# Altium footprint library M55342K06B150ERS3.PcbLib: 2 footprints
Each footprint in its own frame and in the unit in brackets; x right, y up, seen from the top. Pads: shape width x height; smd on the part's side, far side on the other; paste and mask are expansions set on the pad; w line width, h text height; cw(c..) or ccw(c..) is an arc to the next point about the centre after c.
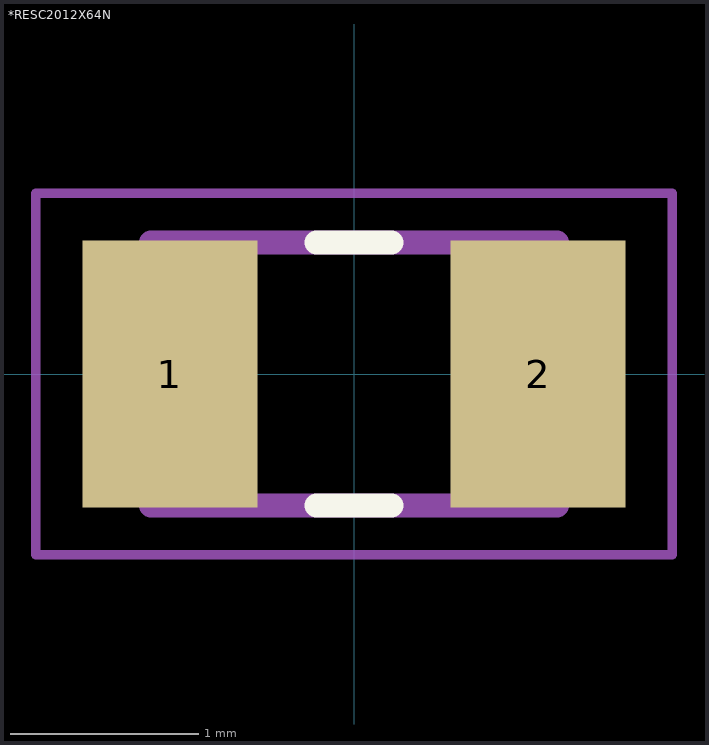
[diagram p0: the footprints below, top view; thin cyan lines are the x and y axes]

## *RESC2012X64N [mm]
pads (2):
  rect 0.93x1.42 smd: 1(-0.979,0) 2(0.979,0)
Top Overlay:
  lines w0.127: -0.2,-0.7 0.2,-0.7 ; -0.2,0.7 0.2,0.7
Mechanical 4:
  lines w0.127: -1.08,-0.7 -1.08,0.7 ; -1.08,-0.7 1.08,-0.7 ; -1.08,-0.7 -1.08,0.7 ; -1.08,-0.7 1.08,-0.7 ; -1.08,0.7 1.08,0.7 ; -1.08,0.7 1.08,0.7 ; 1.08,-0.7 1.08,0.7 ; 1.08,-0.7 1.08,0.7
Mechanical 16:
  lines w0.05: -1.692,-0.962 -1.692,0.962 1.692,0.962 1.692,-0.962 -1.692,-0.962

## PCBComponent_1 [mm]